# Altium footprint library BC847BPN.PcbLib: 1 footprints
Each footprint in its own frame and in the unit in brackets; x right, y up, seen from the top. Pads: shape width x height; smd on the part's side, far side on the other; paste and mask are expansions set on the pad; w line width, h text height; cw(c..) or ccw(c..) is an arc to the next point about the centre after c.
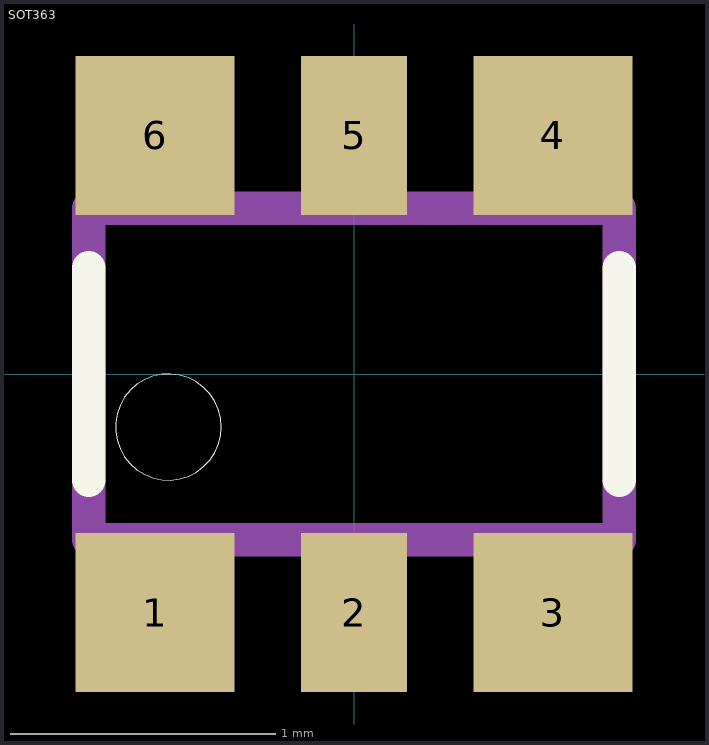
[diagram p0: the footprint, top view; thin cyan lines are the x and y axes]

## SOT363 [mm]
pads (6):
  rect 0.6x0.6 smd: 1(-0.75,-0.9) 3(0.75,-0.9) 4(0.75,0.9) 6(-0.75,0.9)
  rect 0.4x0.6 smd: 2(0,-0.9) 5(0,0.9)
Top Overlay:
  circle w0: c-0.7,-0.2 r0.2
  lines w0.127: -1,-0.4 -1,0.4 ; 1,-0.4 1,0.4
Mechanical 13:
  lines w0.127: -1,-0.625 -1,0.625 1,0.625 1,-0.625 -1,-0.625